# Altium footprint library dip_sockets.PcbLib: 2 footprints
Each footprint in its own frame and in the unit in brackets; x right, y up, seen from the top. Pads: shape width x height; smd on the part's side, far side on the other; paste and mask are expansions set on the pad; w line width, h text height; cw(c..) or ccw(c..) is an arc to the next point about the centre after c.
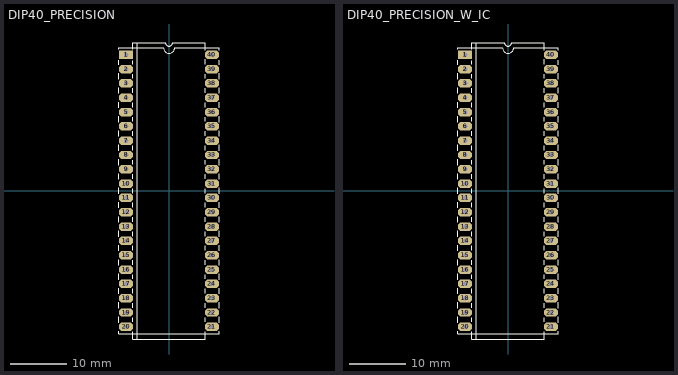
[diagram p0: the footprints below, top view; thin cyan lines are the x and y axes]

## DIP40_PRECISION [mm]
pads (40):
  rect 2.5x1.5 hole 0.8: 1(-7.62,24.13)
  oct 2.5x1.5 hole 0.8: 2(-7.62,21.59) 3(-7.62,19.05) 4(-7.62,16.51) 5(-7.62,13.97) 6(-7.62,11.43) 7(-7.62,8.89) 8(-7.62,6.35) 9(-7.62,3.81) 10(-7.62,1.27) 11(-7.62,-1.27) 12(-7.62,-3.81) 13(-7.62,-6.35) 14(-7.62,-8.89) 15(-7.62,-11.43) 16(-7.62,-13.97) 17(-7.62,-16.51) 18(-7.62,-19.05) 19(-7.62,-21.59) 20(-7.62,-24.13) 21(7.62,-24.13) 22(7.62,-21.59) 23(7.62,-19.05) 24(7.62,-16.51) 25(7.62,-13.97) 26(7.62,-11.43) 27(7.62,-8.89) 28(7.62,-6.35) 29(7.62,-3.81) 30(7.62,-1.27) 31(7.62,1.27) 32(7.62,3.81) 33(7.62,6.35) 34(7.62,8.89) 35(7.62,11.43) 36(7.62,13.97) 37(7.62,16.51) 38(7.62,19.05) 39(7.62,21.59) 40(7.62,24.13)
Top Overlay:
  lines w0.2: -8.89,-24.892 -8.89,-25.4 -6.477,-25.4 ; -8.89,-23.368 -8.89,-22.352 ; -8.89,-20.828 -8.89,-19.812 ; -8.89,-18.288 -8.89,-17.272 ; -8.89,-15.748 -8.89,-14.732 ; -8.89,-13.208 -8.89,-12.192 ; -8.89,-10.668 -8.89,-9.652 ; -8.89,-8.128 -8.89,-7.112 ; -8.89,-5.588 -8.89,-4.572 ; -8.89,-3.048 -8.89,-2.032 ; -8.89,-0.508 -8.89,0.508 ; -8.89,2.032 -8.89,3.048 ; -8.89,4.572 -8.89,5.588 ; -8.89,7.112 -8.89,8.128 ; -8.89,9.652 -8.89,10.668 ; -8.89,12.192 -8.89,13.208 ; -8.89,14.732 -8.89,15.748 ; -8.89,17.272 -8.89,18.288 ; -8.89,19.812 -8.89,20.828 ; -8.89,22.352 -8.89,23.114 ; -8.89,25.146 -8.89,25.4 -6.45,25.4 -0.989,25.4 ccw(c0.014,25.4) 1.016,25.4 6.477,25.4 8.89,25.4 8.89,24.892 ; -6.45,-25.019 -6.45,-25.4 ; -6.45,-23.26 -6.45,-22.479 ; -6.45,-20.72 -6.45,-19.939 ; -6.45,-18.18 -6.45,-17.399 ; -6.45,-15.64 -6.45,-14.859 ; -6.45,-13.1 -6.45,-12.319 ; -6.45,-10.56 -6.45,-9.779 ; -6.45,-8.02 -6.45,-7.239 ; -6.45,-5.48 -6.45,-4.699 ; -6.45,-2.94 -6.45,-2.159 ; -6.45,-0.4 -6.45,0.381 ; -6.45,2.14 -6.45,2.921 ; -6.45,4.68 -6.45,5.461 ; -6.45,7.22 -6.45,8.001 ; -6.45,9.76 -6.45,10.541 ; -6.45,12.3 -6.45,13.081 ; -6.45,14.84 -6.45,15.621 ; -6.45,17.38 -6.45,18.161 ; -6.45,19.92 -6.45,20.701 ; -6.45,22.46 -6.45,23.1 ; -6.45,25.15 -6.45,26.289 -0.635,26.289 ccw(c0,26.289) 0.635,26.289 6.45,26.289 6.45,24.96 ; -5.688,-26.289 -5.688,26.289 ; 6.45,-25.019 6.45,-25.4 ; 6.45,-23.26 6.45,-22.479 ; 6.45,-20.72 6.45,-19.939 ; 6.45,-18.18 6.45,-17.399 ; 6.45,-15.64 6.45,-14.859 ; 6.45,-13.1 6.45,-12.319 ; 6.45,-10.56 6.45,-9.779 ; 6.45,-8.02 6.45,-7.239 ; 6.45,-5.48 6.45,-4.699 ; 6.45,-2.94 6.45,-2.159 ; 6.45,-0.4 6.45,0.381 ; 6.45,2.14 6.45,2.921 ; 6.45,4.68 6.45,5.461 ; 6.45,7.22 6.45,8.001 ; 6.45,9.76 6.45,10.541 ; 6.45,12.3 6.45,13.081 ; 6.45,14.84 6.45,15.621 ; 6.45,17.38 6.45,18.161 ; 6.45,19.92 6.45,20.701 ; 6.45,22.46 6.45,23.3 ; 8.89,-24.892 8.89,-25.4 6.477,-25.4 ; 8.89,-23.368 8.89,-22.352 ; 8.89,-20.828 8.89,-19.812 ; 8.89,-18.288 8.89,-17.272 ; 8.89,-15.748 8.89,-14.732 ; 8.89,-13.208 8.89,-12.192 ; 8.89,-10.668 8.89,-9.652 ; 8.89,-8.128 8.89,-7.112 ; 8.89,-5.588 8.89,-4.572 ; 8.89,-3.048 8.89,-2.032 ; 8.89,-0.508 8.89,0.508 ; 8.89,2.032 8.89,3.048 ; 8.89,4.572 8.89,5.588 ; 8.89,7.112 8.89,8.128 ; 8.89,9.652 8.89,10.668 ; 8.89,12.192 8.89,13.208 ; 8.89,14.732 8.89,15.748 ; 8.89,17.272 8.89,18.288 ; 8.89,19.812 8.89,20.828 ; 8.89,22.352 8.89,23.114 ; -6.477,-25.4 6.45,-25.4 ; -6.477,-25.4 -6.45,-25.4 ; -6.477,-25.4 -6.45,-25.4 ; -6.45,-25.4 -6.45,-26.289 6.45,-26.289 6.45,-25.4 ; 6.45,-25.4 6.477,-25.4 ; 6.45,-25.4 6.477,-25.4
3D body "User Library-DIP-40_IC_SOCKET.STEP": height 4.37, standoff -3, extent -8.85,-25.4 8.85,25.4

## DIP40_PRECISION_W_IC [mm]
pads (40):
  rect 2.5x1.5 hole 0.8: 1(-7.62,24.13)
  oct 2.5x1.5 hole 0.8: 2(-7.62,21.59) 3(-7.62,19.05) 4(-7.62,16.51) 5(-7.62,13.97) 6(-7.62,11.43) 7(-7.62,8.89) 8(-7.62,6.35) 9(-7.62,3.81) 10(-7.62,1.27) 11(-7.62,-1.27) 12(-7.62,-3.81) 13(-7.62,-6.35) 14(-7.62,-8.89) 15(-7.62,-11.43) 16(-7.62,-13.97) 17(-7.62,-16.51) 18(-7.62,-19.05) 19(-7.62,-21.59) 20(-7.62,-24.13) 21(7.62,-24.13) 22(7.62,-21.59) 23(7.62,-19.05) 24(7.62,-16.51) 25(7.62,-13.97) 26(7.62,-11.43) 27(7.62,-8.89) 28(7.62,-6.35) 29(7.62,-3.81) 30(7.62,-1.27) 31(7.62,1.27) 32(7.62,3.81) 33(7.62,6.35) 34(7.62,8.89) 35(7.62,11.43) 36(7.62,13.97) 37(7.62,16.51) 38(7.62,19.05) 39(7.62,21.59) 40(7.62,24.13)
Top Overlay:
  lines w0.2: -8.89,-24.892 -8.89,-25.4 -6.477,-25.4 ; -8.89,-23.368 -8.89,-22.352 ; -8.89,-20.828 -8.89,-19.812 ; -8.89,-18.288 -8.89,-17.272 ; -8.89,-15.748 -8.89,-14.732 ; -8.89,-13.208 -8.89,-12.192 ; -8.89,-10.668 -8.89,-9.652 ; -8.89,-8.128 -8.89,-7.112 ; -8.89,-5.588 -8.89,-4.572 ; -8.89,-3.048 -8.89,-2.032 ; -8.89,-0.508 -8.89,0.508 ; -8.89,2.032 -8.89,3.048 ; -8.89,4.572 -8.89,5.588 ; -8.89,7.112 -8.89,8.128 ; -8.89,9.652 -8.89,10.668 ; -8.89,12.192 -8.89,13.208 ; -8.89,14.732 -8.89,15.748 ; -8.89,17.272 -8.89,18.288 ; -8.89,19.812 -8.89,20.828 ; -8.89,22.352 -8.89,23.114 ; -8.89,25.146 -8.89,25.4 -6.45,25.4 -0.989,25.4 ccw(c0.014,25.4) 1.016,25.4 6.477,25.4 8.89,25.4 8.89,24.892 ; -6.45,-25.019 -6.45,-25.4 ; -6.45,-23.26 -6.45,-22.479 ; -6.45,-20.72 -6.45,-19.939 ; -6.45,-18.18 -6.45,-17.399 ; -6.45,-15.64 -6.45,-14.859 ; -6.45,-13.1 -6.45,-12.319 ; -6.45,-10.56 -6.45,-9.779 ; -6.45,-8.02 -6.45,-7.239 ; -6.45,-5.48 -6.45,-4.699 ; -6.45,-2.94 -6.45,-2.159 ; -6.45,-0.4 -6.45,0.381 ; -6.45,2.14 -6.45,2.921 ; -6.45,4.68 -6.45,5.461 ; -6.45,7.22 -6.45,8.001 ; -6.45,9.76 -6.45,10.541 ; -6.45,12.3 -6.45,13.081 ; -6.45,14.84 -6.45,15.621 ; -6.45,17.38 -6.45,18.161 ; -6.45,19.92 -6.45,20.701 ; -6.45,22.46 -6.45,23.1 ; -6.45,25.15 -6.45,26.289 -0.635,26.289 ccw(c0,26.289) 0.635,26.289 6.45,26.289 6.45,24.96 ; -5.688,-26.289 -5.688,26.289 ; 6.45,-25.019 6.45,-25.4 ; 6.45,-23.26 6.45,-22.479 ; 6.45,-20.72 6.45,-19.939 ; 6.45,-18.18 6.45,-17.399 ; 6.45,-15.64 6.45,-14.859 ; 6.45,-13.1 6.45,-12.319 ; 6.45,-10.56 6.45,-9.779 ; 6.45,-8.02 6.45,-7.239 ; 6.45,-5.48 6.45,-4.699 ; 6.45,-2.94 6.45,-2.159 ; 6.45,-0.4 6.45,0.381 ; 6.45,2.14 6.45,2.921 ; 6.45,4.68 6.45,5.461 ; 6.45,7.22 6.45,8.001 ; 6.45,9.76 6.45,10.541 ; 6.45,12.3 6.45,13.081 ; 6.45,14.84 6.45,15.621 ; 6.45,17.38 6.45,18.161 ; 6.45,19.92 6.45,20.701 ; 6.45,22.46 6.45,23.3 ; 8.89,-24.892 8.89,-25.4 6.477,-25.4 ; 8.89,-23.368 8.89,-22.352 ; 8.89,-20.828 8.89,-19.812 ; 8.89,-18.288 8.89,-17.272 ; 8.89,-15.748 8.89,-14.732 ; 8.89,-13.208 8.89,-12.192 ; 8.89,-10.668 8.89,-9.652 ; 8.89,-8.128 8.89,-7.112 ; 8.89,-5.588 8.89,-4.572 ; 8.89,-3.048 8.89,-2.032 ; 8.89,-0.508 8.89,0.508 ; 8.89,2.032 8.89,3.048 ; 8.89,4.572 8.89,5.588 ; 8.89,7.112 8.89,8.128 ; 8.89,9.652 8.89,10.668 ; 8.89,12.192 8.89,13.208 ; 8.89,14.732 8.89,15.748 ; 8.89,17.272 8.89,18.288 ; 8.89,19.812 8.89,20.828 ; 8.89,22.352 8.89,23.114 ; -6.477,-25.4 -6.45,-25.4 ; -6.477,-25.4 -6.45,-25.4 ; -6.477,-25.4 6.45,-25.4 ; -6.45,-25.4 -6.45,-26.289 6.45,-26.289 6.45,-25.4 ; 6.45,-25.4 6.477,-25.4 ; 6.45,-25.4 6.477,-25.4
3D body "SW3dPS-DIP40-600.step": height 10, standoff 1.72, extent -7.745,-26.225 7.745,26.225
3D body "User Library-DIP-40_IC_SOCKET.STEP": height 4.37, standoff -3, extent -8.85,-25.4 8.85,25.4